# Altium footprint library BeliefSat-0 2.0(Lib).PcbLib: 18 footprints (part 2 of 2)
Each footprint in its own frame and in the unit in brackets; x right, y up, seen from the top. Pads: shape width x height; smd on the part's side, far side on the other; paste and mask are expansions set on the pad; w line width, h text height; cw(c..) or ccw(c..) is an arc to the next point about the centre after c.
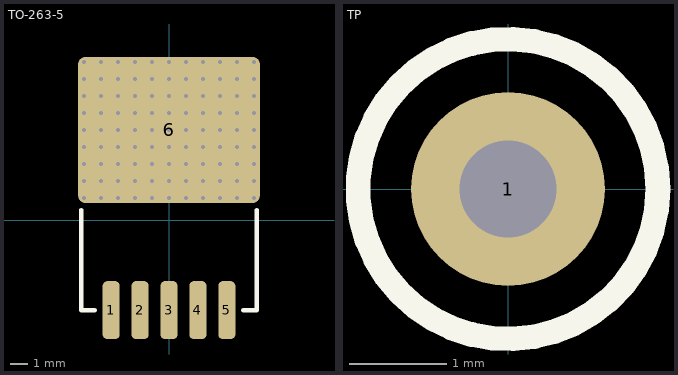
[diagram p1: the footprints below, top view; thin cyan lines are the x and y axes]

## TO-263-5 [mm]
pads (6):
  rrect50% 1x3.4 smd: 1(-3.4,-5.3) 2(-1.7,-5.3) 3(0,-5.3) 4(1.7,-5.3) 5(3.4,-5.3)
  rrect10% 10.7x8.6 smd: 6(0,5.3)
via -5,2.3 diameter 0.508 hole 0.254
via -5,3.3 diameter 0.508 hole 0.254
via -5,4.3 diameter 0.508 hole 0.254
via -5,9.3 diameter 0.508 hole 0.254
via -5,8.3 diameter 0.508 hole 0.254
via -5,7.3 diameter 0.508 hole 0.254
via -5,5.3 diameter 0.508 hole 0.254
via -5,6.3 diameter 0.508 hole 0.254
via -4,2.3 diameter 0.508 hole 0.254
via -4,3.3 diameter 0.508 hole 0.254
via -4,4.3 diameter 0.508 hole 0.254
via -4,9.3 diameter 0.508 hole 0.254
via -4,8.3 diameter 0.508 hole 0.254
via -4,7.3 diameter 0.508 hole 0.254
via -4,5.3 diameter 0.508 hole 0.254
via -4,6.3 diameter 0.508 hole 0.254
via -3,2.3 diameter 0.508 hole 0.254
via -3,3.3 diameter 0.508 hole 0.254
via -3,4.3 diameter 0.508 hole 0.254
via -3,9.3 diameter 0.508 hole 0.254
via -3,8.3 diameter 0.508 hole 0.254
via -3,7.3 diameter 0.508 hole 0.254
via -3,5.3 diameter 0.508 hole 0.254
via -3,6.3 diameter 0.508 hole 0.254
via -2,2.3 diameter 0.508 hole 0.254
via -2,3.3 diameter 0.508 hole 0.254
via -2,4.3 diameter 0.508 hole 0.254
via -2,9.3 diameter 0.508 hole 0.254
via -2,8.3 diameter 0.508 hole 0.254
via -2,7.3 diameter 0.508 hole 0.254
via -2,5.3 diameter 0.508 hole 0.254
via -2,6.3 diameter 0.508 hole 0.254
via -1,2.3 diameter 0.508 hole 0.254
via -1,3.3 diameter 0.508 hole 0.254
via -1,4.3 diameter 0.508 hole 0.254
via -1,9.3 diameter 0.508 hole 0.254
via -1,8.3 diameter 0.508 hole 0.254
via -1,7.3 diameter 0.508 hole 0.254
via -1,5.3 diameter 0.508 hole 0.254
via -1,6.3 diameter 0.508 hole 0.254
via 5,2.3 diameter 0.508 hole 0.254
via 5,3.3 diameter 0.508 hole 0.254
via 5,4.3 diameter 0.508 hole 0.254
via 5,9.3 diameter 0.508 hole 0.254
via 5,8.3 diameter 0.508 hole 0.254
via 5,7.3 diameter 0.508 hole 0.254
via 5,5.3 diameter 0.508 hole 0.254
via 5,6.3 diameter 0.508 hole 0.254
via 4,2.3 diameter 0.508 hole 0.254
via 4,3.3 diameter 0.508 hole 0.254
via 4,4.3 diameter 0.508 hole 0.254
via 4,9.3 diameter 0.508 hole 0.254
via 4,8.3 diameter 0.508 hole 0.254
via 4,7.3 diameter 0.508 hole 0.254
via 4,5.3 diameter 0.508 hole 0.254
via 4,6.3 diameter 0.508 hole 0.254
via 3,2.3 diameter 0.508 hole 0.254
via 3,3.3 diameter 0.508 hole 0.254
via 3,4.3 diameter 0.508 hole 0.254
via 3,9.3 diameter 0.508 hole 0.254
via 3,8.3 diameter 0.508 hole 0.254
via 3,7.3 diameter 0.508 hole 0.254
via 3,5.3 diameter 0.508 hole 0.254
via 3,6.3 diameter 0.508 hole 0.254
via 2,2.3 diameter 0.508 hole 0.254
via 2,3.3 diameter 0.508 hole 0.254
via 2,4.3 diameter 0.508 hole 0.254
via 2,9.3 diameter 0.508 hole 0.254
via 2,8.3 diameter 0.508 hole 0.254
via 2,7.3 diameter 0.508 hole 0.254
via 2,5.3 diameter 0.508 hole 0.254
via 2,6.3 diameter 0.508 hole 0.254
via 1,2.3 diameter 0.508 hole 0.254
via 1,3.3 diameter 0.508 hole 0.254
via 1,4.3 diameter 0.508 hole 0.254
via 1,9.3 diameter 0.508 hole 0.254
via 1,8.3 diameter 0.508 hole 0.254
via 1,7.3 diameter 0.508 hole 0.254
via 1,5.3 diameter 0.508 hole 0.254
via 1,6.3 diameter 0.508 hole 0.254
via -5,1.3 diameter 0.508 hole 0.254
via -4,1.3 diameter 0.508 hole 0.254
via -3,1.3 diameter 0.508 hole 0.254
via -2,1.3 diameter 0.508 hole 0.254
via -1,1.3 diameter 0.508 hole 0.254
via 5,1.3 diameter 0.508 hole 0.254
via 4,1.3 diameter 0.508 hole 0.254
via 3,1.3 diameter 0.508 hole 0.254
via 2,1.3 diameter 0.508 hole 0.254
via 1,1.3 diameter 0.508 hole 0.254
via 0,1.3 diameter 0.508 hole 0.254
via 0,2.3 diameter 0.508 hole 0.254
via 0,3.3 diameter 0.508 hole 0.254
via 0,4.3 diameter 0.508 hole 0.254
via 0,9.3 diameter 0.508 hole 0.254
via 0,8.3 diameter 0.508 hole 0.254
via 0,7.3 diameter 0.508 hole 0.254
via 0,5.3 diameter 0.508 hole 0.254
via 0,6.3 diameter 0.508 hole 0.254
Top Overlay:
  lines w0.254: -5.169,0.585 -5.169,-5.3 -4.362,-5.3 ; 4.362,-5.3 5.169,-5.3 5.169,0.585
3D body "TO-263-5.STEP": height 4.56, standoff 0, extent -5.08,-5.813 5.08,8.202

## TP [mm]
pads (1):
  round 2 hole 1: 1(0,0)
Top Overlay:
  circle w0.254: c0,0 r1.546